# Altium footprint library Laser_Arduino.PcbLib: 13 footprints
Each footprint in its own frame and in the unit in brackets; x right, y up, seen from the top. Pads: shape width x height; smd on the part's side, far side on the other; paste and mask are expansions set on the pad; w line width, h text height; cw(c..) or ccw(c..) is an arc to the next point about the centre after c.
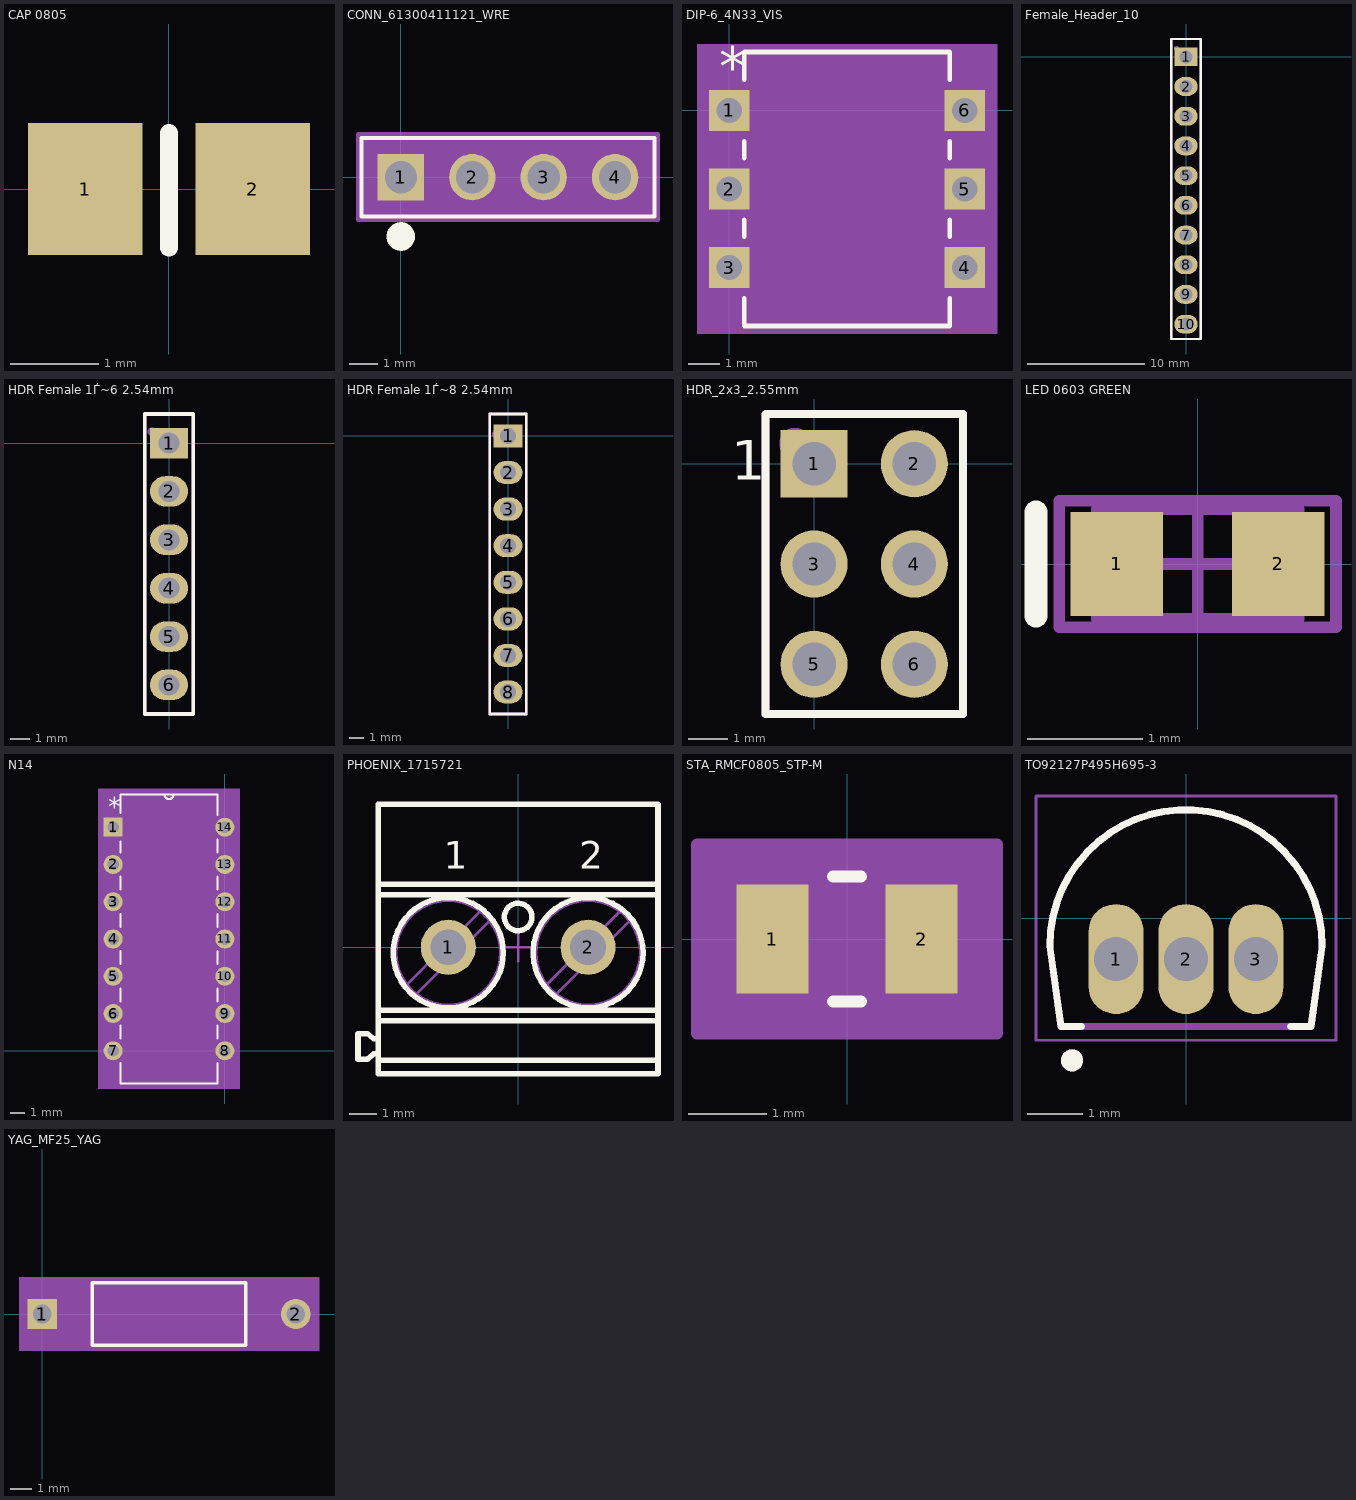
[diagram p0: the footprints below, top view; thin cyan lines are the x and y axes]

## CAP 0805 [mm] "Chip Capacitor; Body 2.0 x 1.2 mm (LxW typ)"
height 1.3
pads (2):
  rect 1.3x1.5 smd: 1(-0.95,0) 2(0.95,0)
Top Overlay:
  lines w0.2: 0,-0.665 0,0.635
3D body "User Library-0805 SMD Capacitor.step": height 0.78, standoff 0, extent -1,-0.625 1,0.625

## CONN_61300411121_WRE [mil]
pads (4):
  rect 65x65 hole 45 mask+0: 1(0,0)
  round 65 hole 45 mask+0: 2(100,0) 3(200,0) 4(300,0)
Top Overlay:
  circle w20: c0,-83 r10
  lines w6: -55,-55 -55,55 355,55 355,-55 -55,-55
Mechanical 5:
  region: 357.5,-57.5 -57.5,-57.5 -57.5,57.5 357.5,57.5
Mechanical 13:
  circle w0: c0,-35 r10
  lines w1: -50,-50 -50,50 350,50 350,-50 -50,-50
Mechanical 15:
  region: 360,60 -60,60 -60,-60 360,-60
  lines w6: -60,-60 360,-60 360,60 -60,60 -60,-60
3D body "CONN_61300411121_WRE.step": height 350, standoff -200, extent -50,-50 350,50

## DIP-6_4N33_VIS [mil]
pads (6):
  rect 52x52 hole 32 mask+0: 1(0,0) 2(0,-100) 3(0,-200) 4(300,-200) 5(300,-100) 6(300,0)
Top Overlay:
  lines w6: 19,-239.1 19,-274.5 281,-274.5 281,-239.1 ; 19,-160.9 19,-139.1 ; 19,-60.9 19,-39.1 ; 19,39.1 19,74.5 281,74.5 281,39.1 ; 281,-160.9 281,-139.1 ; 281,-60.9 281,-39.1
  text "*" at -12.5,31 h50
Mechanical 5:
  region: 341,-284.5 -41,-284.5 -41,84.5 341,84.5
Mechanical 13:
  lines w0: 138,69.5 ccw(c150,69.5) 162,69.5
  lines w1: -16,-216 -16,-184 24,-184 24,-216 -16,-216 ; -16,-116 -16,-84 24,-84 24,-116 -16,-116 ; -16,-16 -16,16 24,16 24,-16 -16,-16 ; 24,-269.5 276,-269.5 276,69.5 24,69.5 24,-269.5 ; 276,-216 276,-184 316,-184 316,-216 276,-216 ; 276,-116 276,-84 316,-84 316,-116 276,-116 ; 276,-16 276,16 316,16 316,-16 276,-16
  text "*" at 21.5,-25 h50
Mechanical 15:
  region: 286,-236 336,-236 336,36 286,36 286,79.5 14,79.5 14,36 -36,36 -36,-236 14,-236 14,-279.5 286,-279.5
  lines w6: -36,-236 -36,36 14,36 14,79.5 286,79.5 286,36 336,36 336,-236 286,-236 286,-279.5 14,-279.5 14,-236 -36,-236
3D body "DIP-6_4N33_VIS.step": height 155.12, standoff -100, extent -5,-269.49 315,69.49

## Female_Header_10 [mm]
pads (10):
  rect 2x1.6 hole 1.1: 1(0,0)
  oval 2x1.6 hole 1.1: 2(0,-2.54) 3(0,-5.08) 4(0,-7.62) 5(0,-10.16) 6(0,-12.7) 7(0,-15.24) 8(0,-17.78) 9(0,-20.32) 10(0,-22.86)
Top Overlay:
  lines w0.2: -1.27,-24.13 -1.27,1.524 1.27,1.524 1.27,-24.13 -1.27,-24.13
Mechanical 2:
  circle w0.254: c-0.8,0.7 r0.1
  lines w0.2: -1.27,-24.13 -1.27,1.524 1.27,1.524 1.27,-24.13 -1.27,-24.13
  text "1" at -2.54,-0.508 h1
  text ".Designator" at 0.508,-14.986 h1.52
3D body "m20-7821046_asm.stp": height 8.31, standoff -3.19, extent -1.25,-24.33 1.25,1.47

## HDR Female 1Ѓ~6 2.54mm [mm]
pads (6):
  rect 2x1.6 hole 1.1: 1(0,0)
  oval 2x1.6 hole 1.1: 2(0,-2.54) 3(0,-5.08) 4(0,-7.62) 5(0,-10.16) 6(0,-12.7)
Top Overlay:
  lines w0.2: -1.27,-14.224 1.27,-14.224 1.27,1.524 -1.27,1.524 -1.27,-14.224
Mechanical 2:
  circle w0.254: c-0.9,0.6 r0.1
  lines w0.2: -1.27,-14.224 -0.635,-14.224 0.635,-14.224 1.27,-14.224 1.27,1.524 -1.27,1.524 -1.27,-14.224
  text "1" at -2.54,-0.508 h1
  text ".Designator" at 1.138,-9.946 h1.52
3D body "M20-7820646.stp": height 8.66, standoff -3.24, extent -1.23,-14.224 1.27,1.416

## HDR Female 1Ѓ~8 2.54mm [mm]
pads (8):
  rect 2x1.6 hole 1.1: 1(0,0)
  oval 2x1.6 hole 1.1: 2(0,-2.54) 3(0,-5.08) 4(0,-7.62) 5(0,-10.16) 6(0,-12.7) 7(0,-15.24) 8(0,-17.78)
Top Overlay:
  lines w0.2: -1.27,-19.304 1.27,-19.304 1.27,-19.05 1.27,1.524 -1.27,1.524 -1.27,-19.05 -1.27,-19.304
Mechanical 2:
  circle w0.254: c-0.9,0.1 r0.1
  lines w0.2: -1.27,-19.304 -0.635,-19.304 0.635,-19.304 1.27,-19.304 1.27,1.524 -1.27,1.524 -1.27,-19.304
  text ".Designator" at 0.548,-15.766 h1.52
  text "1" at -2.54,-0.508 h1
3D body "m20-7820842_asm.stp": height 8.31, standoff -3.19, extent -1.23,-19.25 1.27,1.47

## HDR_2x3_2.55mm [mm]
pads (6):
  rect 1.7x1.7 hole 1.1: 1(0,0)
  round 1.7 hole 1.1: 2(2.54,0) 3(0,-2.54) 4(2.54,-2.54) 5(0,-5.08) 6(2.54,-5.08)
Top Overlay:
  lines w0.2: 0.65,1.26 3.77,1.26 3.77,-6.34 -1.23,-6.34 -1.23,1.245 -1.215,1.26 1.92,1.26
  text "1" at -2.1,-0.4 h1
Mechanical 2:
  circle w0.6: c-0.48,0.51 r0.1
  lines w0.2: -1.23,-6.34 -1.23,1.26 3.77,1.26 3.77,-6.34 -1.23,-6.34
  text ".Designator" at 2.008,-4.636 h1.52
3D body "961206-6404-XX-header3x2.stp": height 8.01, standoff -3.29, extent -1.23,-6.35 3.77,1.27

## LED 0603 GREEN [mm] "Chip Capacitor, Body 1.6x0.8mm, IPC High Density"
height 1.3
pads (2):
  rect 0.8x0.9 smd: 1(-0.7,0) 2(0.7,0)
Top Overlay:
  lines w0.2: -1.4,-0.45 -1.4,0.45
Mechanical 13:
  lines w0.1: -0.875,-0.475 0.875,-0.475 0.875,0.475 -0.875,0.475 -0.875,-0.475
Mechanical 15:
  lines w0.1: -0.475,0 0.475,0 ; 0,-0.475 0,0.475 ; -1.2,-0.55 1.2,-0.55 1.2,0.55 -1.2,0.55 -1.2,-0.55
3D body "led_0603_green.STEP": height 0.9, standoff 0, extent -0.85,-0.45 0.85,0.45

## N14 [mil]
pads (14):
  rect 51x51 hole 31: 1(-300,600)
  round 51 hole 31: 2(-300,500) 3(-300,400) 4(-300,300) 5(-300,200) 6(-300,100) 7(-300,0) 8(0,0) 9(0,100) 10(0,200) 11(0,300) 12(0,400) 13(0,500) 14(0,600)
Top Overlay:
  lines w6: -280,-33.01 -280,-87.5 -20,-87.5 -20,-33.01 ; -280,33.01 -280,66.99 ; -280,133.01 -280,166.99 ; -280,233.01 -280,266.99 ; -280,333.01 -280,366.99 ; -280,433.01 -280,466.99 ; -280,533.01 -280,561.4 ; -280,638.6 -280,687.5 -20,687.5 -20,633.01 ; -162,687.5 ccw(c-150,687.5) -138,687.5 ; -20,33.01 -20,66.99 ; -20,133.01 -20,166.99 ; -20,233.01 -20,266.99 ; -20,333.01 -20,366.99 ; -20,433.01 -20,466.99 ; -20,533.01 -20,566.99
  text "*" at -312.5,630.5 h50
Mechanical 5:
  region: 40.5,-102.5 -340.5,-102.5 -340.5,702.5 40.5,702.5
Mechanical 13:
  lines w0: -162,687.5 ccw(c-150,687.5) -138,687.5
  lines w1: -315.5,-15.5 -315.5,15.5 -280,15.5 -280,-15.5 -315.5,-15.5 ; -315.5,84.5 -315.5,115.5 -280,115.5 -280,84.5 -315.5,84.5 ; -315.5,184.5 -315.5,215.5 -280,215.5 -280,184.5 -315.5,184.5 ; -315.5,284.5 -315.5,315.5 -280,315.5 -280,284.5 -315.5,284.5 ; -315.5,384.5 -315.5,415.5 -280,415.5 -280,384.5 -315.5,384.5 ; -315.5,484.5 -315.5,515.5 -280,515.5 -280,484.5 -315.5,484.5 ; -315.5,584.5 -315.5,615.5 -280,615.5 -280,584.5 -315.5,584.5 ; -280,-87.5 -20,-87.5 -20,687.5 -280,687.5 -280,-87.5 ; -20,-15.5 -20,15.5 15.5,15.5 15.5,-15.5 -20,-15.5 ; -20,84.5 -20,115.5 15.5,115.5 15.5,84.5 -20,84.5 ; -20,184.5 -20,215.5 15.5,215.5 15.5,184.5 -20,184.5 ; -20,284.5 -20,315.5 15.5,315.5 15.5,284.5 -20,284.5 ; -20,384.5 -20,415.5 15.5,415.5 15.5,384.5 -20,384.5 ; -20,484.5 -20,515.5 15.5,515.5 15.5,484.5 -20,484.5 ; -20,584.5 -20,615.5 15.5,615.5 15.5,584.5 -20,584.5
  text "*" at -312.5,630.5 h50
Mechanical 15:
  region: 35.5,-97.5 -335.5,-97.5 -335.5,697.5 35.5,697.5
  lines w6: -335.5,-97.5 35.5,-97.5 35.5,697.5 -335.5,697.5 -335.5,-97.5
3D body "N14.step": height 205.12, standoff -100, extent -300,-87.48 20,687.48

## PHOENIX_1715721 [mm] "Terminal Block, 17.5A 400V, Pitch 5.08mm, 2 Positions, Screw Connection"
height 13.8
pads (2):
  round 2 hole 1.3: 1(-2.54,0) 2(2.54,0)
Top Overlay:
  circle w0.2: c0,1.1 r0.5
  circle w0.2: c-2.54,-0.2 r2
  circle w0.2: c2.54,-0.2 r2
  lines w0.2: -5.08,-4.1 5.08,-4.1 ; -5.08,-3.869 -5.247,-3.869 -5.479,-4.064 -5.821,-4.064 -5.821,-3.136 -5.479,-3.136 -5.247,-3.331 -5.08,-3.331 ; -5.08,-2.672 5.08,-2.672 ; -5.08,-2.283 5.08,-2.283 ; -5.08,1.909 5.08,1.909 ; -5.08,2.29 5.08,2.29 ; -5.08,-4.6 5.08,-4.6 5.08,5.2 -5.08,5.2 -5.08,-4.6
  text "1" at -2.699,2.857 h1
  text "2" at 2.222,2.857 h1
Mechanical 8:
  lines w0.1: -3.04,0 -2.54,0 ; -2.54,-0.5 -2.54,0 ; -2.54,0.5 -2.54,0 ; -2.04,0 -2.54,0 ; -0.5,0 0,0 ; 0,-0.5 0,0 ; 0,0.5 0,0 ; 0.5,0 0,0 ; 2.04,0 2.54,0 ; 2.54,-0.5 2.54,0 ; 2.54,0.5 2.54,0 ; 3.04,0 2.54,0
Mechanical 14:
  circle w0.1: c2.54,-0.2 r2
  circle w0.1: c-2.54,-0.2 r2
  circle w0.1: c0,1.1 r0.5
  circle w0.1: c2.54,-0.2 r1.891
  circle w0.1: c-2.54,-0.2 r1.891
  lines w0.1: -5.08,-4.1 5.08,-4.1 ; -5.08,-3.869 -5.247,-3.869 -5.479,-4.064 -5.821,-4.064 -5.821,-3.136 -5.479,-3.136 -5.247,-3.331 -5.08,-3.331 ; -5.08,-2.672 5.08,-2.672 ; -5.08,-2.283 5.08,-2.283 ; -5.08,1.909 5.08,1.909 ; -5.08,2.29 5.08,2.29 ; -4.043,-1.349 -1.391,1.303 ; -3.689,-1.703 -1.037,0.949 ; 1.037,-1.349 3.689,1.303 ; 1.391,-1.703 4.043,0.949 ; -5.08,-4.6 -5.08,5.2 5.08,5.2 5.08,-4.6 -5.08,-4.6
  text "1" at -2.699,2.857 h1
  text "2" at 2.222,2.857 h1
3D body "PHOENIX_1715721.stp": height 14.2, standoff -3.5, extent -5.821,-4.6 5.08,5.2

## STA_RMCF0805_STP-M [mil]
pads (2):
  rect 36x55 smd paste+0 mask+0: 1(-37.5,0) 2(37.5,0)
Top Overlay:
  lines w6: -7.03,-31.5 7.03,-31.5 ; -7.03,31.5 7.03,31.5
Mechanical 5:
  region: 70.5,-42.5 -70.5,-42.5 -70.5,42.5 70.5,42.5
Mechanical 13:
  lines w1: -43.5,-26.5 -43.5,26.5 ; -43.5,-26.5 -19.5,-26.5 -19.5,26.5 -43.5,26.5 ; -43.5,-26.5 43.5,-26.5 ; -43.5,-26.5 -43.5,26.5 ; -43.5,26.5 43.5,26.5 ; 43.5,-26.5 19.5,-26.5 19.5,26.5 43.5,26.5 ; 43.5,-26.5 43.5,26.5 ; 43.5,-26.5 43.5,26.5
Mechanical 15:
  region: 75.5,-47.5 -75.5,-47.5 -75.5,47.5 75.5,47.5
  lines w6: -75.5,-47.5 -75.5,47.5 75.5,47.5 75.5,-47.5 -75.5,-47.5
3D body "STA_RMCF0805_STP.step": height 25.98, standoff 0, extent -43.5,-26.5 43.5,26.5

## TO92127P495H695-3 [mm]
pads (3):
  oval 1x2 hole 0.8: 1(-1.27,-0.745) 2(0,-0.745) 3(1.27,-0.745)
Top Overlay:
  circle w0.2: c-2.07,-2.585 r0.1
  lines w0.127: -1.9,-1.97 -2.27,-1.97 -2.475,-0.505 cw(c0,-0.505) 2.475,-0.505 2.27,-1.97 1.9,-1.97
Mechanical 13:
  circle w0.2: c-2.07,-2.585 r0.1
  lines w0.127: -2.475,-0.505 cw(c0,-0.505) 2.475,-0.505 2.27,-1.97 -2.27,-1.97 -2.475,-0.505
Mechanical 15:
  lines w0.05: -2.725,-2.22 -2.725,2.22 2.725,2.22 2.725,-2.22 -2.725,-2.22
3D body "ALSRobot-TO-92A.step": height 9, standoff -2, extent -2.4,-2.275 2.4,1.655

## YAG_MF25_YAG [mil]
pads (2):
  rect 54x54 hole 34 mask+0: 1(0,0)
  round 54 hole 34 mask+0: 2(460,0)
Top Overlay:
  lines w6: 91,-56.5 369,-56.5 369,56.5 91,56.5 91,-56.5
Mechanical 5:
  region: 502,-66.5 -42,-66.5 -42,66.5 502,66.5
Mechanical 13:
  lines w1: 0,0 96,0 ; 364,0 460,0 ; 96,-51.5 364,-51.5 364,51.5 96,51.5 96,-51.5
Mechanical 15:
  region: 86,-37 -37,-37 -37,37 86,37 86,61.5 374,61.5 374,37 497,37 497,-37 374,-37 374,-61.5 86,-61.5
  lines w6: -37,-37 -37,37 86,37 86,61.5 374,61.5 374,37 497,37 497,-37 374,-37 374,-61.5 86,-61.5 86,-37 -37,-37
3D body "YAG_MF25_YAG.step": height 102.59, standoff -110, extent -12.01,-51.4 472.01,51.4